# Altium footprint library Winbond.PcbLib: 6 footprints
Each footprint in its own frame and in the unit in brackets; x right, y up, seen from the top. Pads: shape width x height; smd on the part's side, far side on the other; paste and mask are expansions set on the pad; w line width, h text height; cw(c..) or ccw(c..) is an arc to the next point about the centre after c.
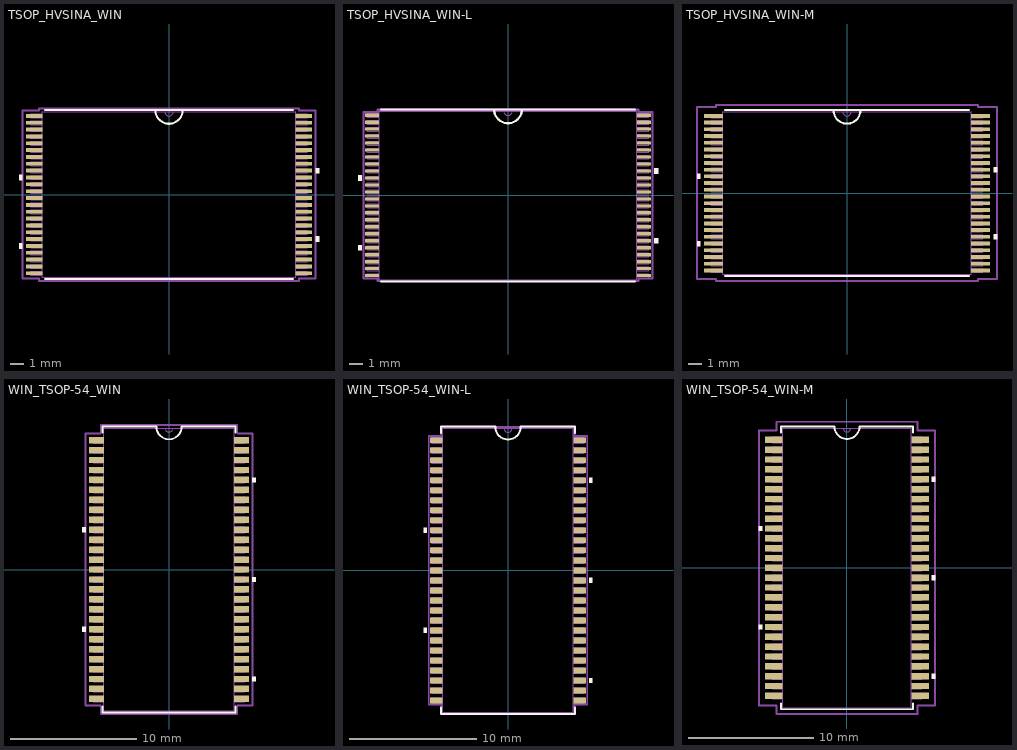
[diagram p0: the footprints below, top view; thin cyan lines are the x and y axes]

## TSOP_HVSINA_WIN [mil]
pads (48):
  rect 47.5x11 smd: 1(-387.75,226.44) 2(-387.75,206.75) 3(-387.75,187.06) 4(-387.75,167.37) 5(-387.75,147.68) 6(-387.75,127.98) 7(-387.75,108.3) 8(-387.75,88.61) 9(-387.75,68.92) 10(-387.75,49.23) 11(-387.75,29.54) 12(-387.75,9.85) 13(-387.75,-9.85) 14(-387.75,-29.54) 15(-387.75,-49.23) 16(-387.75,-68.92) 17(-387.75,-88.61) 18(-387.75,-108.3) 19(-387.75,-127.98) 20(-387.75,-147.68) 21(-387.75,-167.37) 22(-387.75,-187.06) 23(-387.75,-206.75) 24(-387.75,-226.44) 25(387.75,-226.44) 26(387.75,-206.75) 27(387.75,-187.06) 28(387.75,-167.37) 29(387.75,-147.68) 30(387.75,-127.98) 31(387.75,-108.3) 32(387.75,-88.61) 33(387.75,-68.92) 34(387.75,-49.23) 35(387.75,-29.54) 36(387.75,-9.85) 37(387.75,9.85) 38(387.75,29.54) 39(387.75,49.23) 40(387.75,68.92) 41(387.75,88.61) 42(387.75,108.3) 43(387.75,127.98) 44(387.75,147.68) 45(387.75,167.37) 46(387.75,187.06) 47(387.75,206.75) 48(387.75,226.44)
Top Overlay:
  region: 421.5,76.42 431.5,76.42 431.5,61.41 421.5,61.41
  region: 421.5,-120.48 431.5,-120.48 431.5,-135.49 421.5,-135.49
  region: -421.5,-140.18 -431.5,-140.18 -431.5,-155.18 -421.5,-155.18
  region: -421.5,56.73 -431.5,56.73 -431.5,41.73 -421.5,41.73
  lines w6: -356.99,-243 356.99,-243 ; -356.99,243 356.99,243 ; -39.37,243 ccw(c0,243) 39.37,243
Mechanical 13:
  drawing of 197 lines, arcs and shapes, not listed
Mechanical 15:
  lines w6: -421.5,-241.94 -374,-241.94 -374,-248 374,-248 374,-241.94 421.5,-241.94 421.5,241.94 374,241.94 374,248 -374,248 -374,241.94 -421.5,241.94 -421.5,-241.94
3D body "TSOP_HVSINA_WIN.step": height 47.09, standoff 0, extent -397.52,-237.99 397.52,237.99

## TSOP_HVSINA_WIN-L [mil]
pads (48):
  rect 39.5x9 smd: 1(-383.75,226.44) 2(-383.75,206.75) 3(-383.75,187.06) 4(-383.75,167.37) 5(-383.75,147.68) 6(-383.75,127.98) 7(-383.75,108.3) 8(-383.75,88.61) 9(-383.75,68.92) 10(-383.75,49.23) 11(-383.75,29.54) 12(-383.75,9.85) 13(-383.75,-9.85) 14(-383.75,-29.54) 15(-383.75,-49.23) 16(-383.75,-68.92) 17(-383.75,-88.61) 18(-383.75,-108.3) 19(-383.75,-127.98) 20(-383.75,-147.68) 21(-383.75,-167.37) 22(-383.75,-187.06) 23(-383.75,-206.75) 24(-383.75,-226.44) 25(383.75,-226.44) 26(383.75,-206.75) 27(383.75,-187.06) 28(383.75,-167.37) 29(383.75,-147.68) 30(383.75,-127.98) 31(383.75,-108.3) 32(383.75,-88.61) 33(383.75,-68.92) 34(383.75,-49.23) 35(383.75,-29.54) 36(383.75,-9.85) 37(383.75,9.85) 38(383.75,29.54) 39(383.75,49.23) 40(383.75,68.92) 41(383.75,88.61) 42(383.75,108.3) 43(383.75,127.98) 44(383.75,147.68) 45(383.75,167.37) 46(383.75,187.06) 47(383.75,206.75) 48(383.75,226.44)
Top Overlay:
  region: 413.5,76.42 423.5,76.42 423.5,61.41 413.5,61.41
  region: 413.5,-120.48 423.5,-120.48 423.5,-135.49 413.5,-135.49
  region: -413.5,-140.18 -423.5,-140.18 -423.5,-155.18 -413.5,-155.18
  region: -413.5,56.73 -423.5,56.73 -423.5,41.73 -413.5,41.73
  lines w6: -358.9,-243 358.9,-243 ; -358.9,243 358.9,243 ; -39.37,243 ccw(c0,243) 39.37,243
Mechanical 13:
  drawing of 197 lines, arcs and shapes, not listed
Mechanical 15:
  lines w6: -407.5,-234.94 -368,-234.94 -368,-242 368,-242 368,-234.94 407.5,-234.94 407.5,234.94 368,234.94 368,242 -368,242 -368,234.94 -407.5,234.94 -407.5,-234.94
3D body "TSOP_HVSINA_WIN.step": height 47.09, standoff 0, extent -397.52,-237.99 397.52,237.99

## TSOP_HVSINA_WIN-M [mil]
pads (48):
  rect 55.5x11 smd: 1(-391.75,226.44) 2(-391.75,206.75) 3(-391.75,187.06) 4(-391.75,167.37) 5(-391.75,147.68) 6(-391.75,127.98) 7(-391.75,108.3) 8(-391.75,88.61) 9(-391.75,68.92) 10(-391.75,49.23) 11(-391.75,29.54) 12(-391.75,9.85) 13(-391.75,-9.85) 14(-391.75,-29.54) 15(-391.75,-49.23) 16(-391.75,-68.92) 17(-391.75,-88.61) 18(-391.75,-108.3) 19(-391.75,-127.98) 20(-391.75,-147.68) 21(-391.75,-167.37) 22(-391.75,-187.06) 23(-391.75,-206.75) 24(-391.75,-226.44) 25(391.75,-226.44) 26(391.75,-206.75) 27(391.75,-187.06) 28(391.75,-167.37) 29(391.75,-147.68) 30(391.75,-127.98) 31(391.75,-108.3) 32(391.75,-88.61) 33(391.75,-68.92) 34(391.75,-49.23) 35(391.75,-29.54) 36(391.75,-9.85) 37(391.75,9.85) 38(391.75,29.54) 39(391.75,49.23) 40(391.75,68.92) 41(391.75,88.61) 42(391.75,108.3) 43(391.75,127.98) 44(391.75,147.68) 45(391.75,167.37) 46(391.75,187.06) 47(391.75,206.75) 48(391.75,226.44)
Top Overlay:
  region: 429.5,76.42 439.5,76.42 439.5,61.41 429.5,61.41
  region: 429.5,-120.48 439.5,-120.48 439.5,-135.49 429.5,-135.49
  region: -429.5,-140.18 -439.5,-140.18 -439.5,-155.18 -429.5,-155.18
  region: -429.5,56.73 -439.5,56.73 -439.5,41.73 -429.5,41.73
  lines w6: -356.99,-243 356.99,-243 ; -356.99,243 356.99,243 ; -39.37,243 ccw(c0,243) 39.37,243
Mechanical 13:
  drawing of 197 lines, arcs and shapes, not listed
Mechanical 15:
  lines w6: -439.5,-251.94 -384,-251.94 -384,-258 384,-258 384,-251.94 439.5,-251.94 439.5,251.94 384,251.94 384,258 -384,258 -384,251.94 -439.5,251.94 -439.5,-251.94
3D body "TSOP_HVSINA_WIN.step": height 47.09, standoff 0, extent -397.52,-237.99 397.52,237.99

## WIN_TSOP-54_WIN [mil]
pads (54):
  rect 47x20 smd: 1(-226,403) 2(-226,372) 3(-226,341) 4(-226,310) 5(-226,279) 6(-226,248) 7(-226,217) 8(-226,186) 9(-226,155) 10(-226,124) 11(-226,93) 12(-226,62) 13(-226,31) 14(-226,0) 15(-226,-31) 16(-226,-62) 17(-226,-93) 18(-226,-124) 19(-226,-155) 20(-226,-186) 21(-226,-217) 22(-226,-248) 23(-226,-279) 24(-226,-310) 25(-226,-341) 26(-226,-372) 27(-226,-403) 28(226,-403) 29(226,-372) 30(226,-341) 31(226,-310) 32(226,-279) 33(226,-248) 34(226,-217) 35(226,-186) 36(226,-155) 37(226,-124) 38(226,-93) 39(226,-62) 40(226,-31) 41(226,0) 42(226,31) 43(226,62) 44(226,93) 45(226,124) 46(226,155) 47(226,186) 48(226,217) 49(226,248) 50(226,279) 51(226,310) 52(226,341) 53(226,372) 54(226,403)
Top Overlay:
  region: 259.5,286.5 269.5,286.5 269.5,271.5 259.5,271.5
  region: 259.5,-23.5 269.5,-23.5 269.5,-38.5 259.5,-38.5
  region: 259.5,-333.5 269.5,-333.5 269.5,-348.5 259.5,-348.5
  region: -259.5,-178.5 -269.5,-178.5 -269.5,-193.5 -259.5,-193.5
  region: -259.5,131.5 -269.5,131.5 -269.5,116.5 -259.5,116.5
  lines w6: -207.5,-426.1 -207.5,-445 207.5,-445 207.5,-426.1 ; -207.5,426.1 -207.5,445 -39.37,445 ccw(c0,445) 39.37,445 207.5,445 207.5,426.1
Mechanical 13:
  drawing of 221 lines, arcs and shapes, not listed
Mechanical 15:
  lines w6: -259.5,-423 -212.5,-423 -212.5,-450 212.5,-450 212.5,-423 259.5,-423 259.5,423 212.5,423 212.5,450 -212.5,450 -212.5,423 -259.5,423 -259.5,-423
3D body "WIN_TSOP-54_WIN.step": height 47.09, standoff 0, extent -235.51,-440 235.51,440

## WIN_TSOP-54_WIN-L [mil]
pads (54):
  rect 39x18 smd: 1(-222,403) 2(-222,372) 3(-222,341) 4(-222,310) 5(-222,279) 6(-222,248) 7(-222,217) 8(-222,186) 9(-222,155) 10(-222,124) 11(-222,93) 12(-222,62) 13(-222,31) 14(-222,0) 15(-222,-31) 16(-222,-62) 17(-222,-93) 18(-222,-124) 19(-222,-155) 20(-222,-186) 21(-222,-217) 22(-222,-248) 23(-222,-279) 24(-222,-310) 25(-222,-341) 26(-222,-372) 27(-222,-403) 28(222,-403) 29(222,-372) 30(222,-341) 31(222,-310) 32(222,-279) 33(222,-248) 34(222,-217) 35(222,-186) 36(222,-155) 37(222,-124) 38(222,-93) 39(222,-62) 40(222,-31) 41(222,0) 42(222,31) 43(222,62) 44(222,93) 45(222,124) 46(222,155) 47(222,186) 48(222,217) 49(222,248) 50(222,279) 51(222,310) 52(222,341) 53(222,372) 54(222,403)
Top Overlay:
  region: 251.5,286.5 261.5,286.5 261.5,271.5 251.5,271.5
  region: 251.5,-23.5 261.5,-23.5 261.5,-38.5 251.5,-38.5
  region: 251.5,-333.5 261.5,-333.5 261.5,-348.5 251.5,-348.5
  region: -251.5,-178.5 -261.5,-178.5 -261.5,-193.5 -251.5,-193.5
  region: -251.5,131.5 -261.5,131.5 -261.5,116.5 -251.5,116.5
  lines w6: -207.5,-425.1 -207.5,-445 207.5,-445 207.5,-425.1 ; -207.5,425.1 -207.5,445 -39.37,445 ccw(c0,445) 39.37,445 207.5,445 207.5,425.1
Mechanical 13:
  drawing of 221 lines, arcs and shapes, not listed
Mechanical 15:
  lines w6: -245.5,-416 -206.5,-416 -206.5,-444 206.5,-444 206.5,-416 245.5,-416 245.5,416 206.5,416 206.5,444 -206.5,444 -206.5,416 -245.5,416 -245.5,-416
3D body "WIN_TSOP-54_WIN.step": height 47.09, standoff 0, extent -235.51,-440 235.51,440

## WIN_TSOP-54_WIN-M [mil]
pads (54):
  rect 55x20 smd: 1(-230,403) 2(-230,372) 3(-230,341) 4(-230,310) 5(-230,279) 6(-230,248) 7(-230,217) 8(-230,186) 9(-230,155) 10(-230,124) 11(-230,93) 12(-230,62) 13(-230,31) 14(-230,0) 15(-230,-31) 16(-230,-62) 17(-230,-93) 18(-230,-124) 19(-230,-155) 20(-230,-186) 21(-230,-217) 22(-230,-248) 23(-230,-279) 24(-230,-310) 25(-230,-341) 26(-230,-372) 27(-230,-403) 28(230,-403) 29(230,-372) 30(230,-341) 31(230,-310) 32(230,-279) 33(230,-248) 34(230,-217) 35(230,-186) 36(230,-155) 37(230,-124) 38(230,-93) 39(230,-62) 40(230,-31) 41(230,0) 42(230,31) 43(230,62) 44(230,93) 45(230,124) 46(230,155) 47(230,186) 48(230,217) 49(230,248) 50(230,279) 51(230,310) 52(230,341) 53(230,372) 54(230,403)
Top Overlay:
  region: 267.5,286.5 277.5,286.5 277.5,271.5 267.5,271.5
  region: 267.5,-23.5 277.5,-23.5 277.5,-38.5 267.5,-38.5
  region: 267.5,-333.5 277.5,-333.5 277.5,-348.5 267.5,-348.5
  region: -267.5,-178.5 -277.5,-178.5 -277.5,-193.5 -267.5,-193.5
  region: -267.5,131.5 -277.5,131.5 -277.5,116.5 -267.5,116.5
  lines w6: -207.5,-426.1 -207.5,-445 207.5,-445 207.5,-426.1 ; -207.5,426.1 -207.5,445 -39.37,445 ccw(c0,445) 39.37,445 207.5,445 207.5,426.1
Mechanical 13:
  drawing of 221 lines, arcs and shapes, not listed
Mechanical 15:
  lines w6: -277.5,-433 -222.5,-433 -222.5,-460 222.5,-460 222.5,-433 277.5,-433 277.5,433 222.5,433 222.5,460 -222.5,460 -222.5,433 -277.5,433 -277.5,-433
3D body "WIN_TSOP-54_WIN.step": height 47.09, standoff 0, extent -235.51,-440 235.51,440